# EAGLE library part IDC-8 (library _mtvl.connectors)
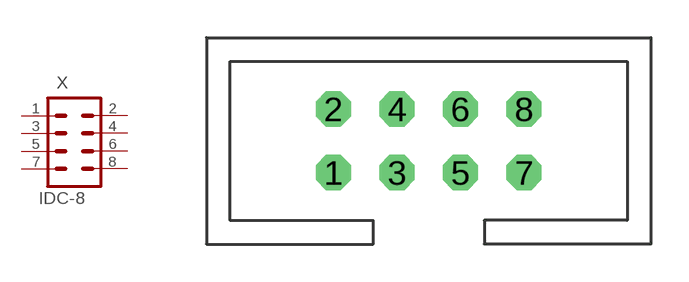
[diagram p43: symbol with the pads of IDC-8; footprint IDC-8]

Designator prefix X

## IDC-8  [IDC-8]
1  1  pas
2  2  pas
3  3  pas
4  4  pas
5  5  pas
6  6  pas
7  7  pas
8  8  pas

## Footprint IDC-8 (pad centres in mm)
drill 0.9 octagon: 1 -3.81,-1.27; 2 -3.81,1.27; 3 -1.27,-1.27; 4 -1.27,1.27; 5 1.27,-1.27; 6 1.27,1.27; 7 3.81,-1.27; 8 3.81,1.27